# Altium schematic symbol library ped.SchLib: 3 symbols
Pins are listed as number, name and electrical type; pins without a type are passive.

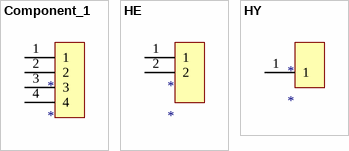
[diagram p0: symbols Component_1 to HY]

## Component_1
designator *
pins: 1, 2, 3, 4

## HE
designator *
pins: 1, 2

## HY
designator *
pins: 1